# EAGLE library part LTC2494 (library IC)
Linear Technology, LTC2494 16-Bit 8-/16-Channel Delta Sigma ADC with PGA and Easy Drive
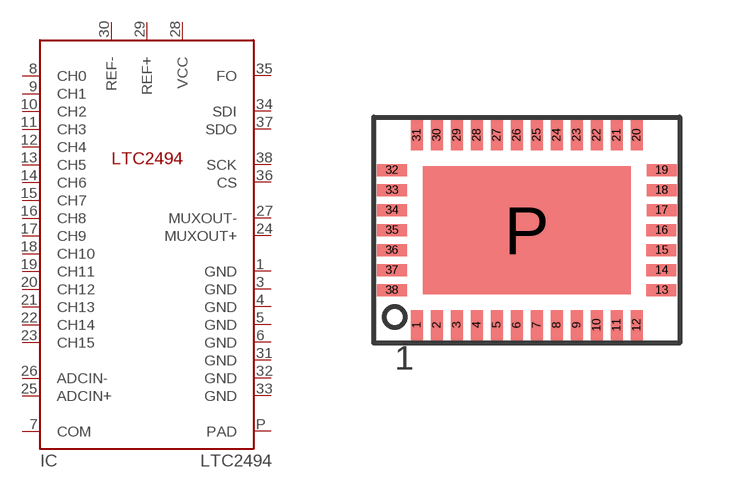
[diagram p158: symbol with the pads of QFN-38; footprint QFN-38]

Designator prefix IC

## LTC2494  [QFN-38]
1  GND  pwr
3  GND  pwr
4  GND  pwr
5  GND  pwr
6  GND  pwr
7  COM  in
8  CH0  in
9  CH1  in
10  CH2  in
11  CH3  in
12  CH4  in
13  CH5  in
14  CH6  in
15  CH7  in
16  CH8  in
17  CH9  in
18  CH10  in
19  CH11  in
20  CH12  in
21  CH13  in
22  CH14  in
23  CH15  in
24  MUXOUT+  out
25  ADCIN+  in
26  ADCIN-  in
27  MUXOUT-  out
28  VCC  pwr
29  REF+  pwr
30  REF-  pwr
31  GND  pwr
32  GND  pwr
33  GND  pwr
34  SDI  in
35  FO
36  CS  in
37  SDO  out
38  SCK  in
P  PAD  pwr

## Footprint QFN-38 (pad centres in mm)
QFN 38 pin package with ground pad, 5mm x 7mm (Linear Tech)
smd 0.3 x 0.75: 1 -2.75,-2.375; 2 -2.25,-2.375; 3 -1.75,-2.375; 4 -1.25,-2.375; 5 -0.75,-2.375; 6 -0.25,-2.375; 7 0.25,-2.375; 8 0.75,-2.375; 9 1.25,-2.375; 10 1.75,-2.375; 11 2.25,-2.375; 12 2.75,-2.375; 20 2.75,2.375; 21 2.25,2.375; 22 1.75,2.375; 23 1.25,2.375; 24 0.75,2.375; 25 0.25,2.375; 26 -0.25,2.375; 27 -0.75,2.375; 28 -1.25,2.375; 29 -1.75,2.375; 30 -2.25,2.375; 31 -2.75,2.375
smd 0.75 x 0.3: 13 3.375,-1.5; 14 3.375,-1; 15 3.375,-0.5; 16 3.375,0; 17 3.375,0.5; 18 3.375,1; 19 3.375,1.5; 32 -3.375,1.5; 33 -3.375,1; 34 -3.375,0.5; 35 -3.375,0; 36 -3.375,-0.5; 37 -3.375,-1; 38 -3.375,-1.5
smd 5.2 x 3.2: P 0,0